# EAGLE library part DF17(3.0)-30DS-0.5V (library con-hirose)
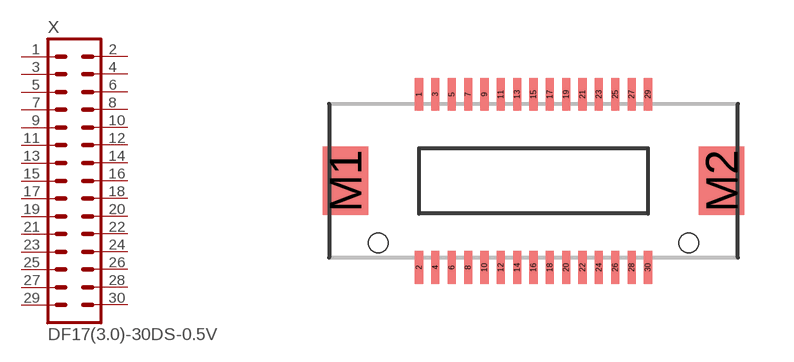
[diagram p1: symbol with the pads of DF17(3.0)-30DS-0.5V; footprint DF17(3.0)-30DS-0.5V]

Designator prefix X

## DF17(3.0)-30DS-0.5V  [DF17(3.0)-30DS-0.5V]
1  1  pas
2  2  pas
3  3  pas
4  4  pas
5  5  pas
6  6  pas
7  7  pas
8  8  pas
9  9  pas
10  10  pas
11  11  pas
12  12  pas
13  13  pas
14  14  pas
15  15  pas
16  16  pas
17  17  pas
18  18  pas
19  19  pas
20  20  pas
21  21  pas
22  22  pas
23  23  pas
24  24  pas
25  25  pas
26  26  pas
27  27  pas
28  28  pas
29  29  pas
30  30  pas

## Footprint DF17(3.0)-30DS-0.5V (pad centres in mm)
30 pin connector PN: DF17D(3.0)-30DS-0.5V Hirose Electric Co.
smd 0.25 x 1: 1 -3.5,2.65; 2 -3.5,-2.65; 3 -3,2.65; 4 -3,-2.65; 5 -2.5,2.65; 6 -2.5,-2.65; 7 -2,2.65; 8 -2,-2.65; 9 -1.5,2.65; 10 -1.5,-2.65; 11 -1,2.65; 12 -1,-2.65; 13 -0.5,2.65; 14 -0.5,-2.65; 15 0,2.65; 16 0,-2.65; 17 0.5,2.65; 18 0.5,-2.65; 19 1,2.65; 20 1,-2.65; 21 1.5,2.65; 22 1.5,-2.65; 23 2,2.65; 24 2,-2.65; 25 2.5,2.65; 26 2.5,-2.65; 27 3,2.65; 28 3,-2.65; 29 3.5,2.65; 30 3.5,-2.65
smd 1.4 x 2.1: M1 -5.75,0; M2 5.75,0
hole 0.6 at -4.75,-1.9
hole 0.6 at 4.75,-1.9